# Altium integrated library Integrated_Library1.IntLib: 9 symbols
Pins are listed as number, name and electrical type; pins without a type are passive.

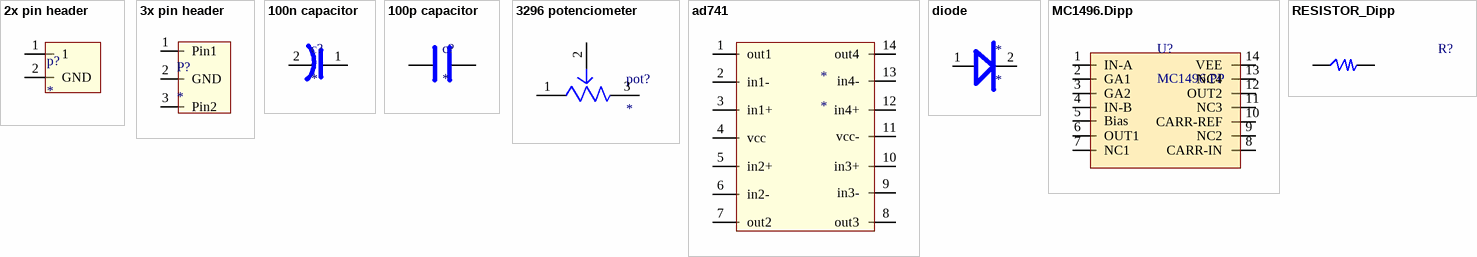
[diagram p0: symbols 2x pin header to RESISTOR_Dipp]

## 2x pin header
designator p?
footprint 2x pin header
pins: 1, 2 GND

## 3x pin header
designator P?
footprint 3x pin header
pins: 1 Pin1, 2 GND, 3 Pin2

## 100n capacitor
designator c?
footprint 100n cap
pins: 1, 2

## 100p capacitor
designator c?
footprint 100p capacitor
pins: 1, 2

## 3296 potenciometer
designator pot?
footprint 3296 potenciometer
pins: 1, 2, 3

## ad741
designator *
footprint ad741
pins: 1 out1, 2 in1-, 3 in1+, 4 vcc, 5 in2+, 6 in2-, 7 out2, 8 out3, 9 in3-, 10 in3+, 11 vcc-, 12 in4+, 13 in4-, 14 out4

## diode
designator *
footprint diode
pins: 1, 2

## MC1496.Dipp
designator U?, comment MC1496.PP
footprint DIP-14-7.62mm
pins: 1 IN-A, 2 GA1, 3 GA2, 4 IN-B, 5 Bias, 6 OUT1, 7 NC1, 8 CARR-IN, 9 NC2, 10 CARR-REF, 11 NC3, 12 OUT2, 13 NC4, 14 VEE

## RESISTOR_Dipp
designator R?
footprint R_AXIAL_0.25W
pins: 1, 2